# Altium schematic symbol library WRIS-KSKE.SchLib: 19 symbols
Pins are listed as number, name and electrical type; pins without a type are passive.

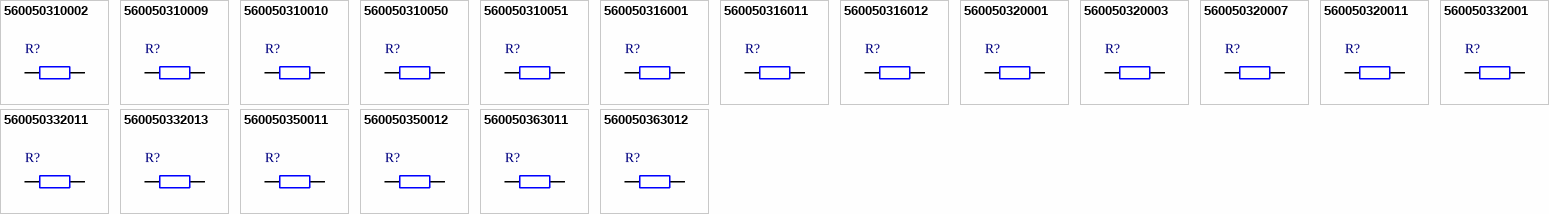
[diagram p0: symbols 560050310002 to 560050363012]

## 560050310002
designator R?, comment 0.15Ω  (value not drawn)
WRIS-KSKE Thick Film Resistor, SMT, size 0402, 0.15Ω, 0.125W, +/-1%; Manufacturer Part Number: 560050310002; Manufacturer: Wurth Elektronik; Case/Size Code: 0402; Rated Current: 0.91A; Temperature Coefficient of Resistance Max: 300ppm/°C; Category: Thick Film Resistors; Match Code: WRIS-KSKE; ComponentLink1Description: Website Link; ComponentLink1URL: https://www.we-online.com/redexpert/article/560050310002?ad; ComponentLink2Description: Datasheet Link; ComponentLink2URL: https://www.we-online.com/redexpert/spec/560050310002?ad; Mount: Surface Mount; Min Operating Temperature: -55°C; Max Operating Temperature: 155°C; Packaging: Tape and Reel; Length: 1mm; Width: 0.5mm; Height: 0.35mm; Rated Power: 0.125W; Resistance: 0.15Ω; Resistance Tolerance: +/-1%
footprint WRIS-KSKE_0402
pins: 1, 2

## 560050310009
designator R?, comment 10Ω  (value not drawn)
WRIS-KSKE Thick Film Resistor, SMT, size 0402, 10Ω, 0.125W, +/-1%; Manufacturer Part Number: 560050310009; Manufacturer: Wurth Elektronik; Case/Size Code: 0402; Rated Current: 0.11A; Temperature Coefficient of Resistance Min: -100ppm/°C; Temperature Coefficient of Resistance Max: 100ppm/°C; Category: Thick Film Resistors; Match Code: WRIS-KSKE; ComponentLink1Description: Website Link; ComponentLink1URL: https://www.we-online.com/redexpert/article/560050310009?ad; ComponentLink2Description: Datasheet Link; ComponentLink2URL: https://www.we-online.com/redexpert/spec/560050310009?ad; Mount: Surface Mount; Min Operating Temperature: -55°C; Max Operating Temperature: 155°C; Packaging: Tape and Reel; Length: 1mm; Width: 0.5mm; Height: 0.35mm; Rated Power: 0.125W; Resistance: 10Ω; Resistance Tolerance: +/-1%
footprint WRIS-KSKE_0402
pins: 1, 2

## 560050310010
designator R?, comment 0.5Ω  (value not drawn)
WRIS-KSKE Thick Film Resistor, SMT, size 0402, 0.5Ω, 0.125W, +/-1%; Manufacturer Part Number: 560050310010; Manufacturer: Wurth Elektronik; Case/Size Code: 0402; Rated Current: 0.5A; Temperature Coefficient of Resistance Max: 200ppm/°C; Category: Thick Film Resistors; Match Code: WRIS-KSKE; ComponentLink1Description: Website Link; ComponentLink1URL: https://www.we-online.com/redexpert/article/560050310010?ad; ComponentLink2Description: Datasheet Link; ComponentLink2URL: https://www.we-online.com/redexpert/spec/560050310010?ad; Mount: Surface Mount; Min Operating Temperature: -55°C; Max Operating Temperature: 155°C; Packaging: Tape and Reel; Length: 1mm; Width: 0.5mm; Height: 0.35mm; Rated Power: 0.125W; Resistance: 0.5Ω; Resistance Tolerance: +/-1%
footprint WRIS-KSKE_0402
pins: 1, 2

## 560050310050
designator R?, comment 4.7Ω  (value not drawn)
WRIS-KSKE Thick Film Resistor, SMT, size 0402, 4.7Ω, 0.125W, +/-1%; Manufacturer Part Number: 560050310050; Manufacturer: Wurth Elektronik; Case/Size Code: 0402; Rated Current: 0.16A; Temperature Coefficient of Resistance Min: -100ppm/°C; Temperature Coefficient of Resistance Max: 100ppm/°C; Category: Thick Film Resistors; Match Code: WRIS-KSKE; ComponentLink1Description: Website Link; ComponentLink1URL: https://www.we-online.com/redexpert/article/560050310050?ad; ComponentLink2Description: Datasheet Link; ComponentLink2URL: https://www.we-online.com/redexpert/spec/560050310050?ad; Mount: Surface Mount; Min Operating Temperature: -55°C; Max Operating Temperature: 155°C; Packaging: Tape and Reel; Length: 1mm; Width: 0.5mm; Height: 0.35mm; Rated Power: 0.125W; Resistance: 4.7Ω; Resistance Tolerance: +/-1%
footprint WRIS-KSKE_0402
pins: 1, 2

## 560050310051
designator R?, comment 5.1Ω  (value not drawn)
WRIS-KSKE Thick Film Resistor, SMT, size 0402, 5.1Ω, 0.125W, +/-1%; Manufacturer Part Number: 560050310051; Manufacturer: Wurth Elektronik; Case/Size Code: 0402; Rated Current: 0.16A; Temperature Coefficient of Resistance Min: -100ppm/°C; Temperature Coefficient of Resistance Max: 100ppm/°C; Category: Thick Film Resistors; Match Code: WRIS-KSKE; ComponentLink1Description: Website Link; ComponentLink1URL: https://www.we-online.com/redexpert/article/560050310051?ad; ComponentLink2Description: Datasheet Link; ComponentLink2URL: https://www.we-online.com/redexpert/spec/560050310051?ad; Mount: Surface Mount; Min Operating Temperature: -55°C; Max Operating Temperature: 155°C; Packaging: Tape and Reel; Length: 1mm; Width: 0.5mm; Height: 0.35mm; Rated Power: 0.125W; Resistance: 5.1Ω; Resistance Tolerance: +/-1%
footprint WRIS-KSKE_0402
pins: 1, 2

## 560050316001
designator R?, comment 0.1Ω  (value not drawn)
WRIS-KSKE Thick Film Resistor, SMT, size 0603, 0.1Ω, 0.25W, +/-1%; Manufacturer Part Number: 560050316001; Manufacturer: Wurth Elektronik; Case/Size Code: 0603; Rated Current: 1.58A; Temperature Coefficient of Resistance Max: 250ppm/°C; Category: Thick Film Resistors; Match Code: WRIS-KSKE; ComponentLink1Description: Website Link; ComponentLink1URL: https://www.we-online.com/redexpert/article/560050316001?ad; ComponentLink2Description: Datasheet Link; ComponentLink2URL: https://www.we-online.com/redexpert/spec/560050316001?ad; Mount: Surface Mount; Min Operating Temperature: -55°C; Max Operating Temperature: 155°C; Packaging: Tape and Reel; Length: 1.6mm; Width: 0.8mm; Height: 0.45mm; Rated Power: 0.25W; Resistance: 0.1Ω; Resistance Tolerance: +/-1%
footprint WRIS-KSKE_0603
pins: 1, 2

## 560050316011
designator R?, comment 0.5Ω  (value not drawn)
WRIS-KSKE Thick Film Resistor, SMT, size 0603, 0.5Ω, 0.25W, +/-1%; Manufacturer Part Number: 560050316011; Manufacturer: Wurth Elektronik; Case/Size Code: 0603; Rated Current: 0.7A; Temperature Coefficient of Resistance Min: -100ppm/°C; Temperature Coefficient of Resistance Max: 100ppm/°C; Category: Thick Film Resistors; Match Code: WRIS-KSKE; ComponentLink1Description: Website Link; ComponentLink1URL: https://www.we-online.com/redexpert/article/560050316011?ad; ComponentLink2Description: Datasheet Link; ComponentLink2URL: https://www.we-online.com/redexpert/spec/560050316011?ad; Mount: Surface Mount; Min Operating Temperature: -55°C; Max Operating Temperature: 155°C; Packaging: Tape and Reel; Length: 1.6mm; Width: 0.8mm; Height: 0.45mm; Rated Power: 0.25W; Resistance: 0.5Ω; Resistance Tolerance: +/-1%
footprint WRIS-KSKE_0603
pins: 1, 2

## 560050316012
designator R?, comment 10Ω  (value not drawn)
WRIS-KSKE Thick Film Resistor, SMT, size 0603, 10Ω, 0.25W, +/-1%; Manufacturer Part Number: 560050316012; Manufacturer: Wurth Elektronik; Case/Size Code: 0603; Rated Current: 0.15A; Temperature Coefficient of Resistance Min: -100ppm/°C; Temperature Coefficient of Resistance Max: 100ppm/°C; Category: Thick Film Resistors; Match Code: WRIS-KSKE; ComponentLink1Description: Website Link; ComponentLink1URL: https://www.we-online.com/redexpert/article/560050316012?ad; ComponentLink2Description: Datasheet Link; ComponentLink2URL: https://www.we-online.com/redexpert/spec/560050316012?ad; Mount: Surface Mount; Min Operating Temperature: -55°C; Max Operating Temperature: 155°C; Packaging: Tape and Reel; Length: 1.6mm; Width: 0.8mm; Height: 0.45mm; Rated Power: 0.25W; Resistance: 10Ω; Resistance Tolerance: +/-1%
footprint WRIS-KSKE_0603
pins: 1, 2

## 560050320001
designator R?, comment 0.1Ω  (value not drawn)
WRIS-KSKE Thick Film Resistor, SMT, size 0805, 0.1Ω, 0.33W, +/-1%; Manufacturer Part Number: 560050320001; Manufacturer: Wurth Elektronik; Case/Size Code: 0805; Rated Current: 1.81A; Temperature Coefficient of Resistance Max: 250ppm/°C; Category: Thick Film Resistors; Match Code: WRIS-KSKE; ComponentLink1Description: Website Link; ComponentLink1URL: https://www.we-online.com/redexpert/article/560050320001?ad; ComponentLink2Description: Datasheet Link; ComponentLink2URL: https://www.we-online.com/redexpert/spec/560050320001?ad; Mount: Surface Mount; Min Operating Temperature: -55°C; Max Operating Temperature: 155°C; Packaging: Tape and Reel; Length: 2mm; Width: 1.25mm; Height: 0.6mm; Rated Power: 0.33W; Resistance: 0.1Ω; Resistance Tolerance: +/-1%
footprint WRIS-KSKE_0805
pins: 1, 2

## 560050320003
designator R?, comment 0.27Ω  (value not drawn)
WRIS-KSKE Thick Film Resistor, SMT, size 0805, 0.27Ω, 0.33W, +/-1%; Manufacturer Part Number: 560050320003; Manufacturer: Wurth Elektronik; Case/Size Code: 0805; Rated Current: 1.1A; Temperature Coefficient of Resistance Max: 200ppm/°C; Category: Thick Film Resistors; Match Code: WRIS-KSKE; ComponentLink1Description: Website Link; ComponentLink1URL: https://www.we-online.com/redexpert/article/560050320003?ad; ComponentLink2Description: Datasheet Link; ComponentLink2URL: https://www.we-online.com/redexpert/spec/560050320003?ad; Mount: Surface Mount; Min Operating Temperature: -55°C; Max Operating Temperature: 155°C; Packaging: Tape and Reel; Length: 2mm; Width: 1.25mm; Height: 0.6mm; Rated Power: 0.33W; Resistance: 0.27Ω; Resistance Tolerance: +/-1%
footprint WRIS-KSKE_0805
pins: 1, 2

## 560050320007
designator R?, comment 2.2Ω  (value not drawn)
WRIS-KSKE Thick Film Resistor, SMT, size 0805, 2.2Ω, 0.33W, +/-1%; Manufacturer Part Number: 560050320007; Manufacturer: Wurth Elektronik; Case/Size Code: 0805; Rated Current: 0.38A; Temperature Coefficient of Resistance Min: 100ppm/°C; Category: Thick Film Resistors; Match Code: WRIS-KSKE; ComponentLink1Description: Website Link; ComponentLink1URL: https://www.we-online.com/redexpert/article/560050320007?ad; ComponentLink2Description: Datasheet Link; ComponentLink2URL: https://www.we-online.com/redexpert/spec/560050320007?ad; Mount: Surface Mount; Min Operating Temperature: -55°C; Max Operating Temperature: 155°C; Packaging: Tape and Reel; Length: 2mm; Width: 1.25mm; Height: 0.6mm; Rated Power: 0.33W; Resistance: 2.2Ω; Resistance Tolerance: +/-1%; Temperature Coefficient of Resistance Max: 100ppm/°C
footprint WRIS-KSKE_0805
pins: 1, 2

## 560050320011
designator R?, comment 1Ω  (value not drawn)
WRIS-KSKE Thick Film Resistor, SMT, size 0805, 1Ω, 0.33W, +/-1%; Manufacturer Part Number: 560050320011; Manufacturer: Wurth Elektronik; Case/Size Code: 0805; Rated Current: 0.57A; Temperature Coefficient of Resistance Min: -100ppm/°C; Temperature Coefficient of Resistance Max: 100ppm/°C; Category: Thick Film Resistors; Match Code: WRIS-KSKE; ComponentLink1Description: Website Link; ComponentLink1URL: https://www.we-online.com/redexpert/article/560050320011?ad; ComponentLink2Description: Datasheet Link; ComponentLink2URL: https://www.we-online.com/redexpert/spec/560050320011?ad; Mount: Surface Mount; Min Operating Temperature: -55°C; Max Operating Temperature: 155°C; Packaging: Tape and Reel; Length: 2mm; Width: 1.25mm; Height: 0.6mm; Rated Power: 0.33W; Resistance: 1Ω; Resistance Tolerance: +/-1%
footprint WRIS-KSKE_0805
pins: 1, 2

## 560050332001
designator R?, comment 0.05Ω  (value not drawn)
WRIS-KSKE Thick Film Resistor, SMT, size 1206, 0.05Ω, 0.5W, +/-1%; Manufacturer Part Number: 560050332001; Manufacturer: Wurth Elektronik; Case/Size Code: 1206; Rated Current: 3.16A; Temperature Coefficient of Resistance Max: 250ppm/°C; Category: Thick Film Resistors; Match Code: WRIS-KSKE; ComponentLink1Description: Website Link; ComponentLink1URL: https://www.we-online.com/redexpert/article/560050332001?ad; ComponentLink2Description: Datasheet Link; ComponentLink2URL: https://www.we-online.com/redexpert/spec/560050332001?ad; Mount: Surface Mount; Min Operating Temperature: -55°C; Max Operating Temperature: 155°C; Packaging: Tape and Reel; Length: 3.1mm; Width: 1.6mm; Height: 0.6mm; Rated Power: 0.5W; Resistance: 0.05Ω; Resistance Tolerance: +/-1%
footprint WRIS-KSKE_1206
pins: 1, 2

## 560050332011
designator R?, comment 3.3Ω  (value not drawn)
WRIS-KSKE Thick Film Resistor, SMT, size 1206, 3.3Ω, 0.5W, +/-1%; Manufacturer Part Number: 560050332011; Manufacturer: Wurth Elektronik; Case/Size Code: 1206; Rated Current: 0.38A; Temperature Coefficient of Resistance Min: -100ppm/°C; Temperature Coefficient of Resistance Max: 100ppm/°C; Category: Thick Film Resistors; Match Code: WRIS-KSKE; ComponentLink1Description: Website Link; ComponentLink1URL: https://www.we-online.com/redexpert/article/560050332011?ad; ComponentLink2Description: Datasheet Link; ComponentLink2URL: https://www.we-online.com/redexpert/spec/560050332011?ad; Mount: Surface Mount; Min Operating Temperature: -55°C; Max Operating Temperature: 155°C; Packaging: Tape and Reel; Length: 3.1mm; Width: 1.6mm; Height: 0.6mm; Rated Power: 0.5W; Resistance: 3.3Ω; Resistance Tolerance: +/-1%
footprint WRIS-KSKE_1206
pins: 1, 2

## 560050332013
designator R?, comment 0.5Ω  (value not drawn)
WRIS-KSKE Thick Film Resistor, SMT, size 1206, 0.5Ω, 0.5W, +/-1%; Manufacturer Part Number: 560050332013; Manufacturer: Wurth Elektronik; Case/Size Code: 1206; Rated Current: 1A; Temperature Coefficient of Resistance Min: -100ppm/°C; Temperature Coefficient of Resistance Max: 100ppm/°C; Category: Thick Film Resistors; Match Code: WRIS-KSKE; ComponentLink1Description: Website Link; ComponentLink1URL: https://www.we-online.com/redexpert/article/560050332013?ad; ComponentLink2Description: Datasheet Link; ComponentLink2URL: https://www.we-online.com/redexpert/spec/560050332013?ad; Mount: Surface Mount; Min Operating Temperature: -55°C; Max Operating Temperature: 155°C; Packaging: Tape and Reel; Length: 3.1mm; Width: 1.6mm; Height: 0.6mm; Rated Power: 0.5W; Resistance: 0.5Ω; Resistance Tolerance: +/-1%
footprint WRIS-KSKE_1206
pins: 1, 2

## 560050350011
designator R?, comment 0.2Ω  (value not drawn)
WRIS-KSKE Thick Film Resistor, SMT, size 2010, 0.2Ω, 0.75W, +/-1%; Manufacturer Part Number: 560050350011; Manufacturer: Wurth Elektronik; Case/Size Code: 2010; Rated Current: 1.93A; Temperature Coefficient of Resistance Max: 200ppm/°C; Category: Thick Film Resistors; Match Code: WRIS-KSKE; ComponentLink1Description: Website Link; ComponentLink1URL: https://www.we-online.com/redexpert/article/560050350011?ad; ComponentLink2Description: Datasheet Link; ComponentLink2URL: https://www.we-online.com/redexpert/spec/560050350011?ad; Mount: Surface Mount; Min Operating Temperature: -55°C; Max Operating Temperature: 155°C; Packaging: Tape and Reel; Length: 5mm; Width: 2.5mm; Height: 0.6mm; Rated Power: 0.75W; Resistance: 0.2Ω; Resistance Tolerance: +/-1%
footprint WRIS-KSKE_2010
pins: 1, 2

## 560050350012
designator R?, comment 0.39Ω  (value not drawn)
WRIS-KSKE Thick Film Resistor, SMT, size 2010, 0.39Ω, 0.75W, +/-1%; Manufacturer Part Number: 560050350012; Manufacturer: Wurth Elektronik; Case/Size Code: 2010; Rated Current: 1.38A; Temperature Coefficient of Resistance Max: 200ppm/°C; Category: Thick Film Resistors; Match Code: WRIS-KSKE; ComponentLink1Description: Website Link; ComponentLink1URL: https://www.we-online.com/redexpert/article/560050350012?ad; ComponentLink2Description: Datasheet Link; ComponentLink2URL: https://www.we-online.com/redexpert/spec/560050350012?ad; Mount: Surface Mount; Min Operating Temperature: -55°C; Max Operating Temperature: 155°C; Packaging: Tape and Reel; Length: 5mm; Width: 2.5mm; Height: 0.6mm; Rated Power: 0.75W; Resistance: 0.39Ω; Resistance Tolerance: +/-1%
footprint WRIS-KSKE_2010
pins: 1, 2

## 560050363011
designator R?, comment 0.5Ω  (value not drawn)
WRIS-KSKE Thick Film Resistor, SMT, size 2512, 0.5Ω, 1W, +/-1%; Manufacturer Part Number: 560050363011; Manufacturer: Wurth Elektronik; Case/Size Code: 2512; Rated Current: 1.41A; Temperature Coefficient of Resistance Min: -100ppm/°C; Temperature Coefficient of Resistance Max: 100ppm/°C; Category: Thick Film Resistors; Match Code: WRIS-KSKE; ComponentLink1Description: Website Link; ComponentLink1URL: https://www.we-online.com/redexpert/article/560050363011?ad; ComponentLink2Description: Datasheet Link; ComponentLink2URL: https://www.we-online.com/redexpert/spec/560050363011?ad; Mount: Surface Mount; Min Operating Temperature: -55°C; Max Operating Temperature: 155°C; Packaging: Tape and Reel; Length: 6.3mm; Width: 3.2mm; Height: 0.6mm; Rated Power: 1W; Resistance: 0.5Ω; Resistance Tolerance: +/-1%
footprint WRIS-KSKE_2512
pins: 1, 2

## 560050363012
designator R?, comment 3.3Ω  (value not drawn)
WRIS-KSKE Thick Film Resistor, SMT, size 2512, 3.3Ω, 1W, +/-1%; Manufacturer Part Number: 560050363012; Manufacturer: Wurth Elektronik; Case/Size Code: 2512; Rated Current: 0.55A; Temperature Coefficient of Resistance Min: -100ppm/°C; Temperature Coefficient of Resistance Max: 100ppm/°C; Category: Thick Film Resistors; Match Code: WRIS-KSKE; ComponentLink1Description: Website Link; ComponentLink1URL: https://www.we-online.com/redexpert/article/560050363012?ad; ComponentLink2Description: Datasheet Link; ComponentLink2URL: https://www.we-online.com/redexpert/spec/560050363012?ad; Mount: Surface Mount; Min Operating Temperature: -55°C; Max Operating Temperature: 155°C; Packaging: Tape and Reel; Length: 6.3mm; Width: 3.2mm; Height: 0.6mm; Rated Power: 1W; Resistance: 3.3Ω; Resistance Tolerance: +/-1%
footprint WRIS-KSKE_2512
pins: 1, 2